# Altium schematic symbol library IRFI4321PBF.SchLib: 1 symbol
Pins are listed as number, name and electrical type; pins without a type are passive.

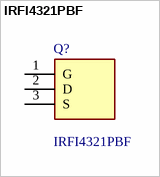
[diagram p0: symbol IRFI4321PBF]

## IRFI4321PBF
designator Q?
MOSFET MOSFT 150V 34A 16mOhm 73nC; Manufacturer_Name: Infineon; Geometry.Height: 4.83mm; Mouser Part Number: 942-IRFI4321PBF; Mouser Price/Stock: https://www.mouser.co.uk/ProductDetail/Infineon-Technologies/IRFI4321PBF?qs=9%252BKlkBgLFf1U%252BCGUGLBmvA%3D%3D; Manufacturer_Part_Number: IRFI4321PBF; Datasheet Link: *
footprint TO254P483X1018X2095-3P
pins: 1 G, 2 D, 3 S